# EAGLE library part MOD_CYBLE022001-00 (library akita)
Cypress PRoC BLE022001-00
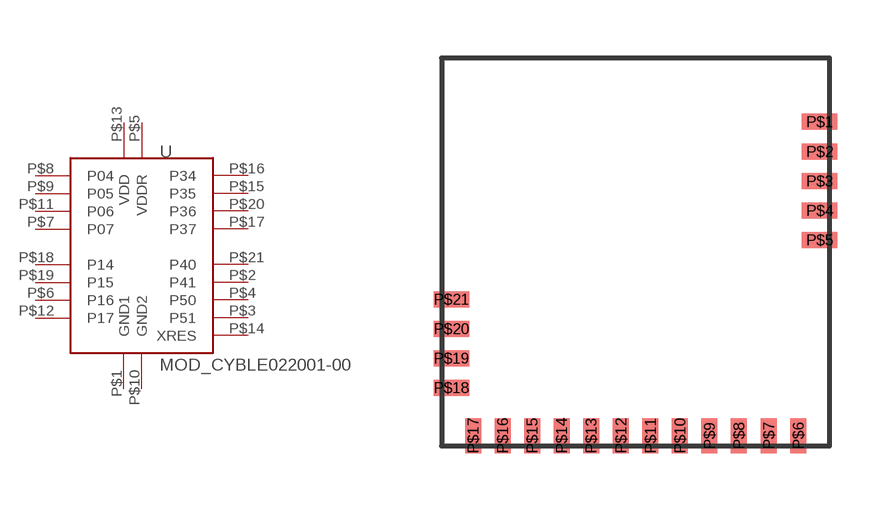
[diagram p144: symbol with the pads of MOD_CYBLE022001-00; footprint MOD_CYBLE022001-00]

Designator prefix U

## MOD_CYBLE022001-00  [MOD_CYBLE022001-00]
P$1  GND1
P$2  P41
P$3  P51
P$4  P50
P$5  VDDR
P$6  P16
P$7  P07
P$8  P04
P$9  P05
P$10  GND2
P$11  P06
P$12  P17
P$13  VDD
P$14  XRES
P$15  P35
P$16  P34
P$17  P37
P$18  P14
P$19  P15
P$20  P36
P$21  P40

## Footprint MOD_CYBLE022001-00 (pad centres in mm)
smd 0.91 x 0.41: P$1 4.74,3.36; P$2 4.74,2.59; P$3 4.74,1.83; P$4 4.74,1.07; P$5 4.74,0.31; P$18 -4.75,-3.5; P$19 -4.75,-2.74; P$20 -4.75,-1.98; P$21 -4.75,-1.22
smd 0.41 x 0.91: P$6 4.19,-4.74; P$7 3.43,-4.74; P$8 2.66,-4.74; P$9 1.9,-4.74; P$10 1.14,-4.74; P$11 0.38,-4.74; P$12 -0.38,-4.74; P$13 -1.15,-4.74; P$14 -1.91,-4.74; P$15 -2.67,-4.74; P$16 -3.43,-4.74; P$17 -4.19,-4.74